# Altium schematic symbol library Adafruit ESP8266 Feather rev E.SCHLIB: 17 symbols
Pins are listed as number, name and electrical type; pins without a type are passive.

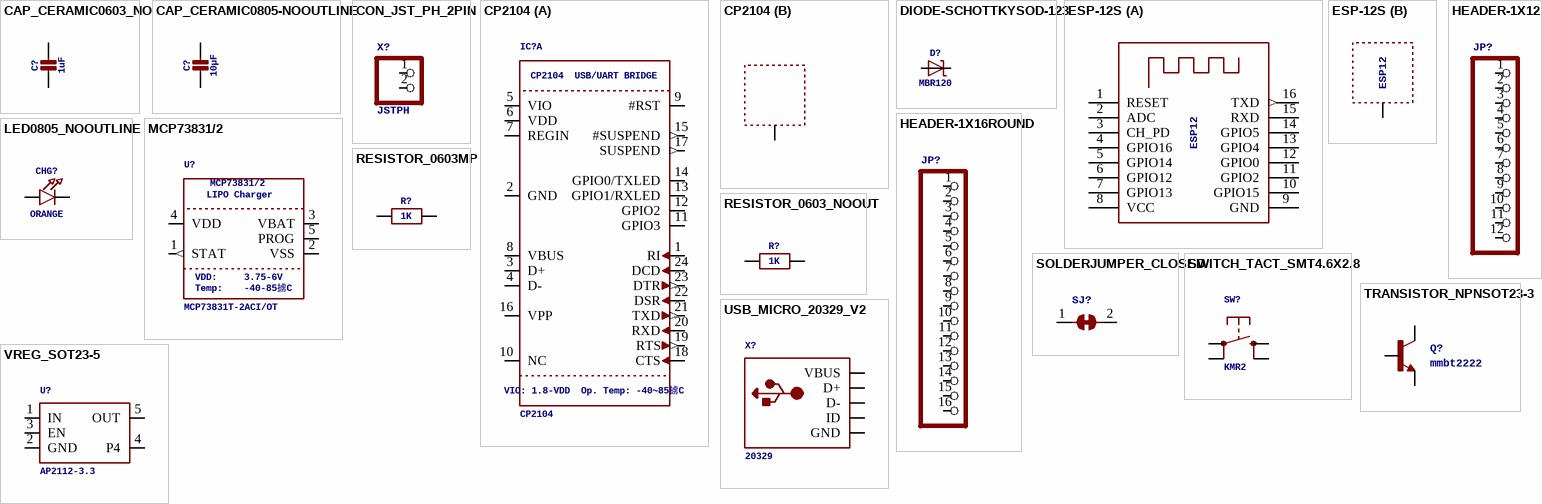
[diagram p0: symbols CAP_CERAMIC0603_NO to VREG_SOT23-5]

## CAP_CERAMIC0603_NO
designator C?, comment 1uF
Ceramic CapacitorsFor new designs, use the packages preceded by an '_' character since they are more reliable:The following footprints should be used on most boards:For extremely tight-pitch boards where space is at a premium, the following 'micro-pitch' footprints can be used (smaller pads, no silkscreen outline, etc.):; GateName_1: G$1; DeviceName: 0603_NO; DeviceSetName: CAP_CERAMIC; SymbolName_1: CAPACITOR; LibraryName: microbuilder
footprint 0603-NO
pins: 1, 2

## CAP_CERAMIC0805-NOOUTLINE
designator C?, comment 10µF
Ceramic CapacitorsFor new designs, use the packages preceded by an '_' character since they are more reliable:The following footprints should be used on most boards:For extremely tight-pitch boards where space is at a premium, the following 'micro-pitch' footprints can be used (smaller pads, no silkscreen outline, etc.):; GateName_1: G$1; DeviceName: 0805-NOOUTLINE; DeviceSetName: CAP_CERAMIC; SymbolName_1: CAPACITOR; LibraryName: microbuilder
footprint 0805-NO
pins: 1, 2

## CON_JST_PH_2PIN
designator X?, comment JSTPH
JST 2-Pin Right-Angle Connector; GateName_1: G$1; SymbolName_1: PINHD2; DeviceSetName: CON_JST_PH_2PIN; LibraryName: microbuilder
footprint JSTPH2
pins: 1, 2

## CP2104
designator IC?  CP2104
USB/UARTBRIDGE: CP2104 / USB/UART BRIDGE  VIO:1.8-VDD
Op.Temp:-40~85掳C: VIO: 1.8-VDD / Op. Temp: -40~85掳C
CP2104 - USB to UART Bridge; GateName_1: G$1; GateName_2: G$2; SymbolName_2: THERMAL-SLUG; SymbolName_1: CP2104; LibraryName: microbuilder; DeviceSetName: CP2104
footprint QFN24_4MM_SMSC
part A pins: 1 RI, 2 GND (power), 3 D+, 4 D-, 5 VIO (power), 6 VDD (power), 7 REGIN (power), 8 VBUS (power), 9 #RST, 10 NC, 11 GPIO3, 12 GPIO2, 13 GPIO1/RXLED, 14 GPIO0/TXLED, 15 #SUSPEND (out), 16 VPP, 17 SUSPEND (out), 18 CTS, 19 RTS (out), 20 RXD, 21 TXD (out), 22 DSR, 23 DTR (out), 24 DCD
part B pins: THERM TP (power)

## DIODE-SCHOTTKYSOD-123
designator D?, comment MBR120
GateName_1: G$1; SymbolName_1: DIODE-SCHOTTKY; DeviceName: SOD-123; LibraryName: microbuilder; DeviceSetName: DIODE-SCHOTTKY
footprint SOD-123
pins: A, C

## ESP-12S
designator X?, comment ESP-12  (value not drawn)
GateName_1: G$1; SymbolName_1: ESP8266-12; GateName_2: G$2; SymbolName_2: THERMAL-SLUG; DeviceSetName: ESP-12S; LibraryName: microbuilder; ESP12: ESP12
footprint ESP-12S
part A pins: 1 RESET, 2 ADC, 3 CH_PD, 4 GPIO16, 5 GPIO14, 6 GPIO12, 7 GPIO13, 8 VCC (power), 9 GND (power), 10 GPIO15, 11 GPIO2, 12 GPIO0, 13 GPIO4, 14 GPIO5, 15 RXD, 16 TXD (out)
part B pins: P$1 TP (power)

## HEADER-1X12
designator JP?  (value not drawn)
GateName_1: G$1; SymbolName_1: PINHD12; LibraryName: microbuilder; DeviceSetName: HEADER-1X12
footprint 1X12_ROUND
pins: 1, 2, 3, 4, 5, 6, 7, 8, 9, 10, 11, 12

## HEADER-1X16ROUND
designator JP?  (value not drawn)
PIN HEADER; GateName_1: A; SymbolName_1: PINHD16; DeviceName: ROUND; LibraryName: microbuilder; DeviceSetName: HEADER-1X16
footprint 1X16_ROUND
pins: 1, 2, 3, 4, 5, 6, 7, 8, 9, 10, 11, 12, 13, 14, 15, 16

## LED0805_NOOUTLINE
designator CHG?, comment ORANGE
LED0603 - 0603 Surface Mount Package 2mA:5mA:0805 - 0805 Surface Mount Package 2mA:20mA:; GateName_1: G$1; SymbolName_1: LED; DeviceName: 0805_NOOUTLINE; LibraryName: microbuilder; DeviceSetName: LED
footprint CHIPLED_0805_NOOUTLINE
pins: A, C

## MCP73831/2
designator U?, comment MCP73831T-2ACI/OT  LIPOCharger: LIPO Charger  Temp: Temp:  VDD: VDD:
MCP73831/2 LIPO ChargerNOTE: STAT is a tri-state logic output on the MCP73831 and an open-drain output on the MCP73832.SOT23-5 with 4.2V output and tri-state logic on STAT = MCP73831T-2ACI/OT; GateName_1: G$1; SymbolName_1: MCP73831/2; LibraryName: microbuilder; DeviceSetName: MCP73831/2; MCP73831/2: MCP73831/2; -40-85掳C: -40-85掳C; 3.75-6V: 3.75-6V
footprint SOT23-5
pins: 1 STAT (out), 2 VSS (power), 3 VBAT (power), 4 VDD (power), 5 PROG

## RESISTOR_0603_NOOUT
designator R?, comment 1K
ResistorsFor new designs, use the packages preceded by an '_' character since they are more reliable:The following footprints should be used on most boards:For extremely tight-pitch boards where space is at a premium, the following 'micro-pitch' footprints can be used (smaller pads, no silkscreen outline, etc.):; GateName_1: G$1; DeviceName: _0603_NOOUT; SymbolName_1: RESISTOR; LibraryName: microbuilder; DeviceSetName: RESISTOR
footprint 0603-NO
pins: 1, 2

## RESISTOR_0603MP
designator R?, comment 1K
ResistorsFor new designs, use the packages preceded by an '_' character since they are more reliable:The following footprints should be used on most boards:For extremely tight-pitch boards where space is at a premium, the following 'micro-pitch' footprints can be used (smaller pads, no silkscreen outline, etc.):; GateName_1: G$1; DeviceName: _0603MP; SymbolName_1: RESISTOR; LibraryName: microbuilder; DeviceSetName: RESISTOR
footprint _0603MP
pins: 1, 2

## SOLDERJUMPER_CLOSED
designator SJ?  (value not drawn)
Solder Jumper - ClosedThese solder jumpers are closed by default; GateName_1: G$1; SymbolName_1: SOLDERJUMPER_CLOSED; LibraryName: microbuilder; DeviceSetName: SOLDERJUMPER_CLOSED
footprint SOLDERJUMPER_CLOSEDWIRE
pins: 1, 2

## SWITCH_TACT_SMT4.6X2.8
designator SW?, comment KMR2
SMT Tact Switches; GateName_1: G$1; SymbolName_1: BUTTON_4PIN; DeviceName: 4.6X2.8; DeviceSetName: SWITCH_TACT_SMT; LibraryName: microbuilder
footprint BTN_KMR2_4.6X2.8
pins: A P, A' P1, B S, B' S1

## TRANSISTOR_NPNSOT23-3
designator Q?, comment mmbt2222
Transistor NPNBJT configuration in SOT23 package. MMBT2222 is the common NPN we use. Double check BCE configuration again layout.; GateName_1: G$1; DeviceName: SOT23-3; DeviceSetName: TRANSISTOR_NPN; SymbolName_1: NPN; LibraryName: SparkFun
footprint SOT23-3
pins: 1 B, 2 E, 3 C

## USB_MICRO_20329_V2
designator X?, comment 20329
USB ConnectorsUSBMINIB - Surface Mount Female Mini-B USB Connector 4UConnector: 06564; GateName_1: G$1; DeviceName: _MICRO_20329_V2; SymbolName_1: USB; LibraryName: microbuilder; DeviceSetName: USB
footprint 4UCONN_20329_V2
pins: BASE@1 BASE@2 GND SPRT@1 SPRT@2 SPRT@3 SPRT@4 GND (power), D+, D-, ID, VBUS (power)

## VREG_SOT23-5
designator U?, comment AP2112-3.3
SOT23-5 Fixed Voltage RegulatorsPartCurrent OutV OutV InV Dropout胃JA (掳C/W)TJ (掳C)Digikey Part No.  ADP121  150mA  3.3V  3.4-5.5V  0.09V @ 150mA  --  --  ADP121-AUJZ33R7CT-ND  ADP121  150mA  3.0V  3.1-5.5V  0.09V @ 150mA  --  --  ADP121-AUJZ30R7CT-ND  ADP122     300mA  3.3V  3.4-5.5V  0.085V @ 300mA  --  --  ADP122AUJZ-3.3-R7CT-ND  ADP1712     300mA  3.3V  3.5-5.5V  0.17V @ 300mA  --  --  ADP1712AUJZ-3.3-R7TR-ND  AP7311 (Low Cost)  150mA  3.3V  3.5-6V  0.15V @ 150mA  --  --  AP7311-33WG-7DICT-ND  LD39015M18R  150mA  1.8V  1.9V-5.5V  0.08V @ 100mA  --  --  497-6977-1-ND  LP2985A-33DBVR  150mA  3.3V  3.3-16V  0.28V @ 150mA  206  150  296-18479-1-ND  MCP1824T-3302E/OT  300mA  3.3V  3.5V-6V  0.2V @ 300mA  --  --  MCP1824T-3302E/OTCT-ND  MIC5205-2.5YM5 TR  150mA  2.5V  2.7-16V  0.165V @ 150mA  --  --  576-1257-2-ND  MIC5205-3.0YM5 TR  150mA  3.0V  3.2V-16V  0.165V @ 150mA  --  --  576-1258-2-ND  MIC5205-3.3YM5 TR  150mA  3.3V  3.5V-16V  0.165V @ 150mA  --  --  576-1259-2-ND  TPS780330220  150mA  3.3V+2.2V  3.6-5.5V  250mV Max  --  --  296-23332-1-ND  TDA3663/N1,135  100mA  3.3V  3.5-45V  0.18V @ 50mA  --  --  568-5343-1-ND                                Max operating temp can be calculated using 胃JA, TJ (max junction temperature), and power in watts.  Set the "Maximum Ambient Temperature" until it reaches TJ ("Max Junction Temperature"), which is the absolute limit for safe use of the regulator: Heat Sink Temperature CalculatorFor example, With 12V source into a 3.3V LP2985 and a 30mA load, we are dissipating (12V-3.3V) * 0.03A = 0.261W.  With a 胃JA of 206 掳C/W, a TJ of 150掳C, and 261mW we can safely use the chip without a heat sink up to 75掳C (=147.1掳C Junction Temperature).; GateName_1: G$1; SymbolName_1: VREG_SOT23-5; LibraryName: microbuilder; DeviceSetName: VREG_SOT23-5
footprint SOT23-5
pins: 1 IN (power), 2 GND (power), 3 EN, 4 P4, 5 OUT (oe)